# EAGLE library part L717SDB25P1ACH3R (library L717SDB25P1ACH3R)
Dsub, Stamped Signal 3A, Right Angle PCB Through Hole, FP=10.40mm (0.409in), Row Pitch 2.54mm, 25 Pin, Flash Gold, Bright Tin Shell+Grounding Dimples, M3 Rear Insert, Ground Tab with Boardlock Source: Datasheet <https://cdn.amphenol-cs.com/media/wysiwyg/files/drawing/l717sdxxxp1ach3r.pdf>
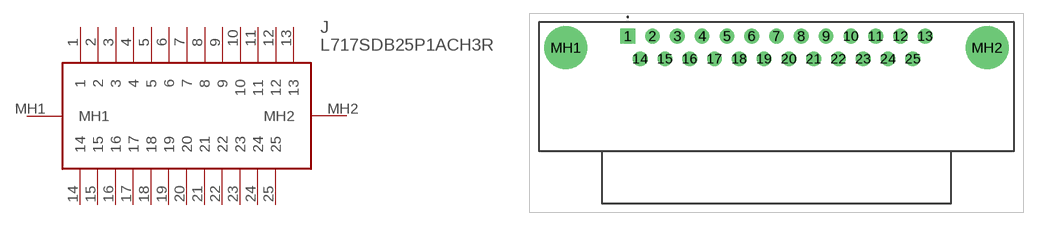
[diagram p0: symbol with the pads of L717SDB25P1ACH3R; footprint L717SDB25P1ACH3R]

Designator prefix J

## L717SDB25P1ACH3R (Description: Dsub, Stamped Signal 3A, Right Angle PCB Through Hole, FP=10.40mm (0.409in), Row Pitch 2.54mm, 25 Pin, Flash Gold, Bright Tin Shell+Grounding Dimples, M3 Rear Insert, Ground Tab with Boardlock; Height: 12.85mm; Manufacturer_Name: Amphenol Communications Solutions; Manufacturer_Part_Number: L717SDB25P1ACH3R; Mouser_Part_Number: 523-L717SDB25P1ACH3R; Mouser_Price-Stock: https://www.mouser.co.uk/ProductDetail/Amphenol-Commercial-Products/L717SDB25P1ACH3R?qs=wLKqLMNa9uJyoB0Jo64d7Q%3D%3D)  [L717SDB25P1ACH3R]
1  1
2  2
3  3
4  4
5  5
6  6
7  7
8  8
9  9
10  10
11  11
12  12
13  13
14  14
15  15
16  16
17  17
18  18
19  19
20  20
21  21
22  22
23  23
24  24
25  25
MH1  MH1
MH2  MH2

## Footprint L717SDB25P1ACH3R (pad centres in mm)
L717SDB25P1ACH3R-1
drill 1.1 pad 1.65 square: 1 0,0
drill 1.1 pad 1.65: 2 2.77,0; 3 5.54,0; 4 8.31,0; 5 11.08,0; 6 13.85,0; 7 16.62,0; 8 19.39,0; 9 22.16,0; 10 24.93,0; 11 27.7,0; 12 30.47,0; 13 33.24,0; 14 1.385,-2.54; 15 4.155,-2.54; 16 6.925,-2.54; 17 9.695,-2.54; 18 12.465,-2.54; 19 15.235,-2.54; 20 18.005,-2.54; 21 20.775,-2.54; 22 23.545,-2.54; 23 26.315,-2.54; 24 29.085,-2.54; 25 31.855,-2.54
drill 3.2 pad 4.8: MH1 -6.9,-1.27; MH2 40.14,-1.27